# Altium schematic symbol library Schlib1.SchLib: 3 symbols
Pins are listed as number, name and electrical type; pins without a type are passive.

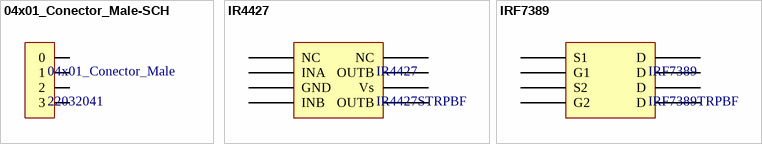
[diagram p0: symbols 04x01_Conector_Male-SCH to IRF7389]

## 04x01_Conector_Male-SCH
designator 04x01_Conector_Male, comment 22032041
CONN HEADER 4POS .100 VERT TIN
footprint 04x01_Conector_Male (0022032041)
pins: 0, 1, 2, 3

## IR4427
designator IR4427, comment IR4427STRPBF
IC DRIVER DUAL LOW SIDE 8-DIP
footprint IR4427-PCB (SOIC, 8-Leads, Body 4,85x3,90mm, Pitch 1,27mm, IPC Medium Density)
pins: 1 NC, 2 INA, 3 GND, 4 INB, 5 OUTB, 6 Vs, 7 OUTB, 8 NC

## IRF7389
designator IRF7389, comment IRF7389TRPBF
MOSFET N/P-CH 30V 8-SOIC
footprint IRF7389-PCB (SOIC, 8-Leads, Body 4,85x3,90mm, Pitch 1,27mm, IPC Medium Density)
pins: 1 S1, 2 G1, 3 S2, 4 G2, 5 D, 6 D, 7 D, 8 D